# EAGLE library part MOLEX_503480-0600 (library Upverter Library)
MOLX-503480-0600
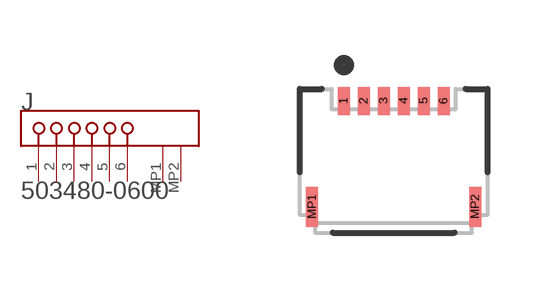
[diagram p0: symbol with the pads of MOLEX_503480-0600_0; footprint MOLEX_503480-0600_0]

Designator prefix J

## MOLEX_503480-0600MOLEX_503480-0600_0_0 (Circuits_Loaded: 6; Component_Link_1_Description: Manufacturer URL; Component_Link_1_URL: http://www.molex.com/molex/index.jsp; Component_Link_3_Description: Package Specification; Component_Link_3_URL: http://www.molex.com/pdm_docs/sd/5034800600_sd.pdf; Contact_Position: Dual; Current_Max_per_Contact: 0.5A; Durability_mating_cycles_max: 10; Entry_Angle: 90degrees Angle; MF: Molex; MPN: 503480-0600; Mated_Height: 1.00mm; Material___Metal: Phosphor Bronze; Material___Plating_Mating: Gold; Material___Plating_Termination: Gold, Tin; Mounting_Technology: Surface Mount; Number_of_Rows: 1; Orientation: Right Angle; PCB_Locator: No; PCB_Retention: Yes; Package_Description: 6-Lead FPC Connector, Pitch 0.5 mm; Package_Version: Rev. F, 09/2012; Packing: Tape and Reel; Pitch___Mating_Interface: 0.50mm; Polarized_to_PCB: Yes; Stackable: No; Voltage_Max: 50V AC (RMS)/DC; ciiva_ids: 605048; datasheet: http://www.molex.com/webdocs/datasheets/pdf/en-us/5034800600_FFC_FPC_CONNECTORS.pdf; footprint_variant_name_0: Manufacturer Recommended; import_ts: 1521858815; imported: yes; imported_from: vault; package: 503480-0600; prefix: J; release_date: 1411372331; rohs: Yes; vault_guid: C3096111-9DEC-4C1E-8A9F-06C243124AF9; vault_revision: 2B4C6D7D-A1A5-4DF8-956F-B2470302EC0D)  [MOLEX_503480-0600_0]
1  1  pas
2  2  pas
3  3  pas
4  4  pas
5  5  pas
6  6  pas
MP1  MP1  pas
MP2  MP2  pas

## Footprint MOLEX_503480-0600_0 (pad centres in mm)
MOLX-503480-0600
smd 0.3 x 0.7: 1 -1.25,1.325; 2 -0.75,1.325; 3 -0.25,1.325; 4 0.25,1.325; 5 0.75,1.325; 6 1.25,1.325
smd 0.3 x 1: MP1 -2.04,-1.325; MP2 2.04,-1.325